# Altium schematic symbol library P6SMBJ5.0CA.SchLib: 1 symbol
Pins are listed as number, name and electrical type; pins without a type are passive.

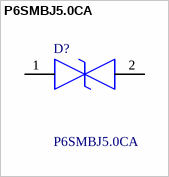
[diagram p0: symbol P6SMBJ5.0CA]

## P6SMBJ5.0CA
designator D?
ESD Suppressors / TVS Diodes TVS, SMB,  150C,  600W, Bidir; Manufacturer_Name: Diotec; Geometry.Height: 2.4mm; Mouser Part Number: 637-P6SMBJ5.0CA; Mouser Price/Stock: https://www.mouser.co.uk/ProductDetail/Diotec-Semiconductor/P6SMBJ5.0CA?qs=OlC7AqGiEDl52k1IDrEg7g%3D%3D; Manufacturer_Part_Number: P6SMBJ5.0CA; Datasheet Link: https://www.mouser.de/datasheet/2/849/p6smbj65-2578601.pdf
footprint DIONM5437X240N
pins: 1, 2